# Altium footprint library bga_footp.PcbLib: 19 footprints (part 1 of 4)
Each footprint in its own frame and in the unit in brackets; x right, y up, seen from the top. Pads: shape width x height; smd on the part's side, far side on the other; paste and mask are expansions set on the pad; w line width, h text height; cw(c..) or ccw(c..) is an arc to the next point about the centre after c.
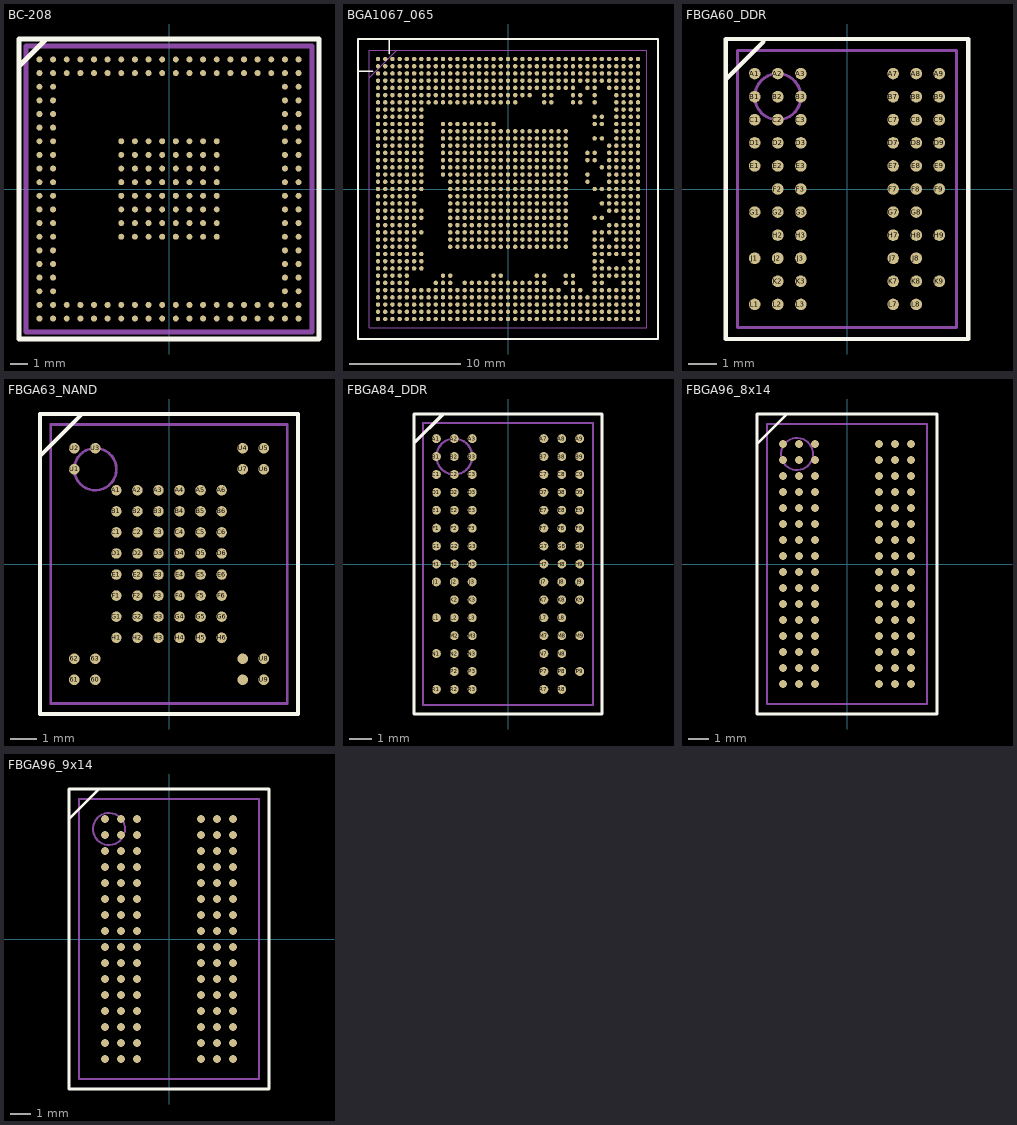
[diagram p0: the footprints below, top view; thin cyan lines are the x and y axes]

## BC-208 [mm]
pads (208):
  round 0.35 smd: A1(-7.6,7.6) A2(-6.8,7.6) A3(-6,7.6) A4(-5.2,7.6) A5(-4.4,7.6) A6(-3.6,7.6) A7(-2.8,7.6) A8(-2,7.6) A9(-1.2,7.6) A10(-0.4,7.6) A11(0.4,7.6) A12(1.2,7.6) A13(2,7.6) A14(2.8,7.6) A15(3.6,7.6) A16(4.4,7.6) A17(5.2,7.6) A18(6,7.6) A19(6.8,7.6) A20(7.6,7.6) B1(-7.6,6.8) B2(-6.8,6.8) B3(-6,6.8) B4(-5.2,6.8) B5(-4.4,6.8) B6(-3.6,6.8) B7(-2.8,6.8) B8(-2,6.8) B9(-1.2,6.8) B10(-0.4,6.8) B11(0.4,6.8) B12(1.2,6.8) B13(2,6.8) B14(2.8,6.8) B15(3.6,6.8) B16(4.4,6.8) B17(5.2,6.8) B18(6,6.8) B19(6.8,6.8) B20(7.6,6.8) C1(-7.6,6) C2(-6.8,6) C19(6.8,6) C20(7.6,6) D1(-7.6,5.2) D2(-6.8,5.2) D19(6.8,5.2) D20(7.6,5.2) E1(-7.6,4.4) E2(-6.8,4.4) E19(6.8,4.4) E20(7.6,4.4) F1(-7.6,3.6) F2(-6.8,3.6) F19(6.8,3.6) F20(7.6,3.6) G1(-7.6,2.8) G2(-6.8,2.8) G7(-2.8,2.8) G8(-2,2.8) G9(-1.2,2.8) G10(-0.4,2.8) G11(0.4,2.8) G12(1.2,2.8) G13(2,2.8) G14(2.8,2.8) G19(6.8,2.8) G20(7.6,2.8) H1(-7.6,2) H2(-6.8,2) H7(-2.8,2) H8(-2,2) H9(-1.2,2) H10(-0.4,2) H11(0.4,2) H12(1.2,2) H13(2,2) H14(2.8,2) H19(6.8,2) H20(7.6,2) J1(-7.6,1.2) J2(-6.8,1.2) J7(-2.8,1.2) J8(-2,1.2) J9(-1.2,1.2) J10(-0.4,1.2) J11(0.4,1.2) J12(1.2,1.2) J13(2,1.2) J14(2.8,1.2) J19(6.8,1.2) J20(7.6,1.2) K1(-7.6,0.4) K2(-6.8,0.4) K7(-2.8,0.4) K8(-2,0.4) K9(-1.2,0.4) K10(-0.4,0.4) K11(0.4,0.4) K12(1.2,0.4) K13(2,0.4) K14(2.8,0.4) K19(6.8,0.4) K20(7.6,0.4) L1(-7.6,-0.4) L2(-6.8,-0.4) L7(-2.8,-0.4) L8(-2,-0.4) L9(-1.2,-0.4) L10(-0.4,-0.4) L11(0.4,-0.4) L12(1.2,-0.4) L13(2,-0.4) L14(2.8,-0.4) L19(6.8,-0.4) L20(7.6,-0.4) M1(-7.6,-1.2) M2(-6.8,-1.2) M7(-2.8,-1.2) M8(-2,-1.2) M9(-1.2,-1.2) M10(-0.4,-1.2) M11(0.4,-1.2) M12(1.2,-1.2) M13(2,-1.2) M14(2.8,-1.2) M19(6.8,-1.2) M20(7.6,-1.2) N1(-7.6,-2) N2(-6.8,-2) N7(-2.8,-2) N8(-2,-2) N9(-1.2,-2) N10(-0.4,-2) N11(0.4,-2) N12(1.2,-2) N13(2,-2) N14(2.8,-2) N19(6.8,-2) N20(7.6,-2) P1(-7.6,-2.8) P2(-6.8,-2.8) P7(-2.8,-2.8) P8(-2,-2.8) P9(-1.2,-2.8) P10(-0.4,-2.8) P11(0.4,-2.8) P12(1.2,-2.8) P13(2,-2.8) P14(2.8,-2.8) P19(6.8,-2.8) P20(7.6,-2.8) R1(-7.6,-3.6) R2(-6.8,-3.6) R19(6.8,-3.6) R20(7.6,-3.6) T1(-7.6,-4.4) T2(-6.8,-4.4) T19(6.8,-4.4) T20(7.6,-4.4) U1(-7.6,-5.2) U2(-6.8,-5.2) U19(6.8,-5.2) U20(7.6,-5.2) V1(-7.6,-6) V2(-6.8,-6) V19(6.8,-6) V20(7.6,-6) W1(-7.6,-6.8) W2(-6.8,-6.8) W3(-6,-6.8) W4(-5.2,-6.8) W5(-4.4,-6.8) W6(-3.6,-6.8) W7(-2.8,-6.8) W8(-2,-6.8) W9(-1.2,-6.8) W10(-0.4,-6.8) W11(0.4,-6.8) W12(1.2,-6.8) W13(2,-6.8) W14(2.8,-6.8) W15(3.6,-6.8) W16(4.4,-6.8) W17(5.2,-6.8) W18(6,-6.8) W19(6.8,-6.8) W20(7.6,-6.8) Y1(-7.6,-7.6) Y2(-6.8,-7.6) Y3(-6,-7.6) Y4(-5.2,-7.6) Y5(-4.4,-7.6) Y6(-3.6,-7.6) Y7(-2.8,-7.6) Y8(-2,-7.6) Y9(-1.2,-7.6) Y10(-0.4,-7.6) Y11(0.4,-7.6) Y12(1.2,-7.6) Y13(2,-7.6) Y14(2.8,-7.6) Y15(3.6,-7.6) Y16(4.4,-7.6) Y17(5.2,-7.6) Y18(6,-7.6) Y19(6.8,-7.6) Y20(7.6,-7.6)
Top Overlay:
  lines w0.3: -8.8,7.2 -7.2,8.8 ; -8.8,-8.8 -8.8,8.8 8.8,8.8 8.8,-8.8 -8.8,-8.8
Mechanical 1:
  lines w0.3: -8.4,-8.4 -8.4,8.4 8.4,8.4 8.4,-8.4 -8.4,-8.4

## BGA1067_065 [mm]
pads (1067):
  round 0.4 smd: A1(-11.7,11.7) A2(-11.05,11.7) A3(-10.4,11.7) A4(-9.75,11.7) A5(-9.1,11.7) A6(-8.45,11.7) A7(-7.8,11.7) A8(-7.15,11.7) A9(-6.5,11.7) A10(-5.85,11.7) A11(-5.2,11.7) A12(-4.55,11.7) A13(-3.9,11.7) A14(-3.25,11.7) A15(-2.6,11.7) A16(-1.95,11.7) A17(-1.3,11.7) A18(-0.65,11.7) A19(0,11.7) A20(0.65,11.7) A21(1.3,11.7) A22(1.95,11.7) A23(2.6,11.7) A24(3.25,11.7) A25(3.9,11.7) A26(4.55,11.7) A27(5.2,11.7) A28(5.85,11.7) A29(6.5,11.7) A30(7.15,11.7) A31(7.8,11.7) A32(8.45,11.7) A33(9.1,11.7) A34(9.75,11.7) A35(10.4,11.7) A36(11.05,11.7) A37(11.7,11.7) AA1(-11.7,-1.3) AA2(-11.05,-1.3) AA3(-10.4,-1.3) AA4(-9.75,-1.3) AA5(-9.1,-1.3) AA6(-8.45,-1.3) AA11(-5.2,-1.3) AA12(-4.55,-1.3) AA13(-3.9,-1.3) AA14(-3.25,-1.3) AA15(-2.6,-1.3) AA16(-1.95,-1.3) AA17(-1.3,-1.3) AA18(-0.65,-1.3) AA19(0,-1.3) AA20(0.65,-1.3) AA21(1.3,-1.3) AA22(1.95,-1.3) AA23(2.6,-1.3) AA24(3.25,-1.3) AA25(3.9,-1.3) AA26(4.55,-1.3) AA27(5.2,-1.3) AA32(8.45,-1.3) AA33(9.1,-1.3) AA34(9.75,-1.3) AA35(10.4,-1.3) AA36(11.05,-1.3) AA37(11.7,-1.3) AB1(-11.7,-1.95) AB2(-11.05,-1.95) AB3(-10.4,-1.95) AB4(-9.75,-1.95) AB5(-9.1,-1.95) AB6(-8.45,-1.95) AB7(-7.8,-1.95) AB11(-5.2,-1.95) AB12(-4.55,-1.95) AB13(-3.9,-1.95) AB14(-3.25,-1.95) AB15(-2.6,-1.95) AB16(-1.95,-1.95) AB17(-1.3,-1.95) AB18(-0.65,-1.95) AB19(0,-1.95) AB20(0.65,-1.95) AB21(1.3,-1.95) AB22(1.95,-1.95) AB23(2.6,-1.95) AB24(3.25,-1.95) AB25(3.9,-1.95) AB26(4.55,-1.95) AB27(5.2,-1.95) AB33(9.1,-1.95) AB34(9.75,-1.95) AB35(10.4,-1.95) AB36(11.05,-1.95) AB37(11.7,-1.95) AC1(-11.7,-2.6) AC2(-11.05,-2.6) AC3(-10.4,-2.6) AC4(-9.75,-2.6) AC5(-9.1,-2.6) AC6(-8.45,-2.6) AC7(-7.8,-2.6) AC11(-5.2,-2.6) AC12(-4.55,-2.6) AC13(-3.9,-2.6) AC14(-3.25,-2.6) AC15(-2.6,-2.6) AC16(-1.95,-2.6) AC17(-1.3,-2.6) AC18(-0.65,-2.6) AC19(0,-2.6) AC20(0.65,-2.6) AC21(1.3,-2.6) AC22(1.95,-2.6) AC23(2.6,-2.6) AC24(3.25,-2.6) AC25(3.9,-2.6) AC26(4.55,-2.6) AC27(5.2,-2.6) AC31(7.8,-2.6) AC32(8.45,-2.6) AC35(10.4,-2.6) AC36(11.05,-2.6) AC37(11.7,-2.6) AD1(-11.7,-3.25) AD2(-11.05,-3.25) AD3(-10.4,-3.25) AD4(-9.75,-3.25) AD5(-9.1,-3.25) AD6(-8.45,-3.25) AD11(-5.2,-3.25) AD12(-4.55,-3.25) AD13(-3.9,-3.25) AD14(-3.25,-3.25) AD15(-2.6,-3.25) AD16(-1.95,-3.25) AD17(-1.3,-3.25) AD18(-0.65,-3.25) AD19(0,-3.25) AD20(0.65,-3.25) AD21(1.3,-3.25) AD22(1.95,-3.25) AD23(2.6,-3.25) AD24(3.25,-3.25) AD25(3.9,-3.25) AD26(4.55,-3.25) AD27(5.2,-3.25) AD33(9.1,-3.25) AD34(9.75,-3.25) AD35(10.4,-3.25) AD36(11.05,-3.25) AD37(11.7,-3.25) AE1(-11.7,-3.9) AE2(-11.05,-3.9) AE3(-10.4,-3.9) AE4(-9.75,-3.9) AE5(-9.1,-3.9) AE6(-8.45,-3.9) AE7(-7.8,-3.9) AE11(-5.2,-3.9) AE12(-4.55,-3.9) AE13(-3.9,-3.9) AE14(-3.25,-3.9) AE15(-2.6,-3.9) AE16(-1.95,-3.9) AE17(-1.3,-3.9) AE18(-0.65,-3.9) AE19(0,-3.9) AE20(0.65,-3.9) AE21(1.3,-3.9) AE22(1.95,-3.9) AE23(2.6,-3.9) AE24(3.25,-3.9) AE25(3.9,-3.9) AE26(4.55,-3.9) AE27(5.2,-3.9) AE31(7.8,-3.9) AE32(8.45,-3.9) AE33(9.1,-3.9) AE34(9.75,-3.9) AE35(10.4,-3.9) AE36(11.05,-3.9) AE37(11.7,-3.9) AF1(-11.7,-4.55) AF2(-11.05,-4.55) AF3(-10.4,-4.55) AF4(-9.75,-4.55) AF5(-9.1,-4.55) AF6(-8.45,-4.55) AF11(-5.2,-4.55) AF12(-4.55,-4.55) AF13(-3.9,-4.55) AF14(-3.25,-4.55) AF15(-2.6,-4.55) AF16(-1.95,-4.55) AF17(-1.3,-4.55) AF18(-0.65,-4.55) AF19(0,-4.55) AF20(0.65,-4.55) AF21(1.3,-4.55) AF22(1.95,-4.55) AF23(2.6,-4.55) AF24(3.25,-4.55) AF25(3.9,-4.55) AF26(4.55,-4.55) AF27(5.2,-4.55) AF31(7.8,-4.55) AF32(8.45,-4.55) AF34(9.75,-4.55) AF35(10.4,-4.55) AF36(11.05,-4.55) AF37(11.7,-4.55) AG1(-11.7,-5.2) AG2(-11.05,-5.2) AG3(-10.4,-5.2) AG4(-9.75,-5.2) AG5(-9.1,-5.2) AG6(-8.45,-5.2) AG11(-5.2,-5.2) AG12(-4.55,-5.2) AG13(-3.9,-5.2) AG14(-3.25,-5.2) AG15(-2.6,-5.2) AG16(-1.95,-5.2) AG17(-1.3,-5.2) AG18(-0.65,-5.2) AG19(0,-5.2) AG20(0.65,-5.2) AG21(1.3,-5.2) AG22(1.95,-5.2) AG23(2.6,-5.2) AG24(3.25,-5.2) AG25(3.9,-5.2) AG26(4.55,-5.2) AG27(5.2,-5.2) AG31(7.8,-5.2) AG32(8.45,-5.2) AG33(9.1,-5.2) AG34(9.75,-5.2) AG35(10.4,-5.2) AG36(11.05,-5.2) AG37(11.7,-5.2) AH1(-11.7,-5.85) AH2(-11.05,-5.85) AH3(-10.4,-5.85) AH4(-9.75,-5.85) AH5(-9.1,-5.85) AH6(-8.45,-5.85) AH7(-7.8,-5.85) AH31(7.8,-5.85) AH32(8.45,-5.85) AH33(9.1,-5.85) AH34(9.75,-5.85) AH35(10.4,-5.85) AH36(11.05,-5.85) AH37(11.7,-5.85) AJ1(-11.7,-6.5) AJ2(-11.05,-6.5) AJ3(-10.4,-6.5) AJ4(-9.75,-6.5) AJ5(-9.1,-6.5) AJ6(-8.45,-6.5) AJ7(-7.8,-6.5) AJ31(7.8,-6.5) AJ32(8.45,-6.5) AJ36(11.05,-6.5) AJ37(11.7,-6.5) AK1(-11.7,-7.15) AK2(-11.05,-7.15) AK3(-10.4,-7.15) AK4(-9.75,-7.15) AK5(-9.1,-7.15) AK6(-8.45,-7.15) AK7(-7.8,-7.15) AK31(7.8,-7.15) AK32(8.45,-7.15) AK33(9.1,-7.15) AK34(9.75,-7.15) AK35(10.4,-7.15) AK36(11.05,-7.15) AK37(11.7,-7.15) AL1(-11.7,-7.8) AL2(-11.05,-7.8) AL3(-10.4,-7.8) AL4(-9.75,-7.8) AL5(-9.1,-7.8) AL10(-5.85,-7.8) AL11(-5.2,-7.8) AL17(-1.3,-7.8) AL18(-0.65,-7.8) AL23(2.6,-7.8) AL24(3.25,-7.8) AL27(5.2,-7.8) AL28(5.85,-7.8) AL31(7.8,-7.8) AL32(8.45,-7.8) AL33(9.1,-7.8) AL34(9.75,-7.8) AL35(10.4,-7.8) AL36(11.05,-7.8) AL37(11.7,-7.8) AM1(-11.7,-8.45) AM2(-11.05,-8.45) AM3(-10.4,-8.45) AM4(-9.75,-8.45) AM5(-9.1,-8.45) AM9(-6.5,-8.45) AM10(-5.85,-8.45) AM11(-5.2,-8.45) AM13(-3.9,-8.45) AM14(-3.25,-8.45) AM15(-2.6,-8.45) AM16(-1.95,-8.45) AM17(-1.3,-8.45) AM18(-0.65,-8.45) AM19(0,-8.45) AM20(0.65,-8.45) AM21(1.3,-8.45) AM22(1.95,-8.45) AM23(2.6,-8.45) AM24(3.25,-8.45) AM27(5.2,-8.45) AM28(5.85,-8.45) AM31(7.8,-8.45) AM32(8.45,-8.45) AM35(10.4,-8.45) AM36(11.05,-8.45) AM37(11.7,-8.45) AN1(-11.7,-9.1) AN2(-11.05,-9.1) AN3(-10.4,-9.1) AN4(-9.75,-9.1) AN5(-9.1,-9.1) AN6(-8.45,-9.1) AN7(-7.8,-9.1) AN8(-7.15,-9.1) AN9(-6.5,-9.1) AN10(-5.85,-9.1) AN11(-5.2,-9.1) AN12(-4.55,-9.1) AN13(-3.9,-9.1) AN14(-3.25,-9.1) AN15(-2.6,-9.1) AN16(-1.95,-9.1) AN17(-1.3,-9.1) AN18(-0.65,-9.1) AN19(0,-9.1) AN20(0.65,-9.1) AN21(1.3,-9.1) AN22(1.95,-9.1) AN23(2.6,-9.1) AN24(3.25,-9.1) AN25(3.9,-9.1) AN26(4.55,-9.1) AN28(5.85,-9.1) AN29(6.5,-9.1) AN31(7.8,-9.1) AN32(8.45,-9.1) AN33(9.1,-9.1) AN34(9.75,-9.1) AN35(10.4,-9.1) AN36(11.05,-9.1) AN37(11.7,-9.1) AP1(-11.7,-9.75) AP2(-11.05,-9.75) AP3(-10.4,-9.75) AP4(-9.75,-9.75) AP5(-9.1,-9.75) AP6(-8.45,-9.75) AP7(-7.8,-9.75) AP8(-7.15,-9.75) AP9(-6.5,-9.75) AP10(-5.85,-9.75) AP11(-5.2,-9.75) AP12(-4.55,-9.75) AP13(-3.9,-9.75) AP14(-3.25,-9.75) AP15(-2.6,-9.75) AP16(-1.95,-9.75) AP17(-1.3,-9.75) AP18(-0.65,-9.75) AP19(0,-9.75) AP20(0.65,-9.75) AP21(1.3,-9.75) AP22(1.95,-9.75) AP23(2.6,-9.75) AP24(3.25,-9.75) AP25(3.9,-9.75) AP26(4.55,-9.75) AP27(5.2,-9.75) AP28(5.85,-9.75) AP29(6.5,-9.75) AP30(7.15,-9.75) AP31(7.8,-9.75) AP32(8.45,-9.75) AP33(9.1,-9.75) AP34(9.75,-9.75) AP35(10.4,-9.75) AP36(11.05,-9.75) AP37(11.7,-9.75) AR1(-11.7,-10.4) AR2(-11.05,-10.4) AR3(-10.4,-10.4) AR4(-9.75,-10.4) AR5(-9.1,-10.4) AR6(-8.45,-10.4) AR7(-7.8,-10.4) AR8(-7.15,-10.4) AR9(-6.5,-10.4) AR10(-5.85,-10.4) AR11(-5.2,-10.4) AR12(-4.55,-10.4) AR13(-3.9,-10.4) AR14(-3.25,-10.4) AR15(-2.6,-10.4) AR16(-1.95,-10.4) AR17(-1.3,-10.4) AR18(-0.65,-10.4) AR19(0,-10.4) AR20(0.65,-10.4) AR21(1.3,-10.4) AR22(1.95,-10.4) AR23(2.6,-10.4) AR24(3.25,-10.4) AR25(3.9,-10.4) AR26(4.55,-10.4) AR27(5.2,-10.4) AR28(5.85,-10.4) AR29(6.5,-10.4) AR30(7.15,-10.4) AR31(7.8,-10.4) AR32(8.45,-10.4) AR33(9.1,-10.4) AR34(9.75,-10.4) AR35(10.4,-10.4) AR36(11.05,-10.4) AR37(11.7,-10.4) AT1(-11.7,-11.05) AT2(-11.05,-11.05) AT3(-10.4,-11.05) AT4(-9.75,-11.05) AT5(-9.1,-11.05) AT6(-8.45,-11.05) AT7(-7.8,-11.05) AT8(-7.15,-11.05) AT9(-6.5,-11.05) AT10(-5.85,-11.05) AT11(-5.2,-11.05) AT12(-4.55,-11.05) AT13(-3.9,-11.05) AT14(-3.25,-11.05) AT15(-2.6,-11.05) AT16(-1.95,-11.05) AT17(-1.3,-11.05) AT18(-0.65,-11.05) AT19(0,-11.05) AT20(0.65,-11.05) AT21(1.3,-11.05) AT22(1.95,-11.05) AT23(2.6,-11.05) AT24(3.25,-11.05) AT25(3.9,-11.05) AT26(4.55,-11.05) AT27(5.2,-11.05) AT28(5.85,-11.05) AT29(6.5,-11.05) AT30(7.15,-11.05) AT31(7.8,-11.05) AT32(8.45,-11.05) AT33(9.1,-11.05) AT34(9.75,-11.05) AT35(10.4,-11.05) AT36(11.05,-11.05) AT37(11.7,-11.05) AU1(-11.7,-11.7) AU2(-11.05,-11.7) AU3(-10.4,-11.7) AU4(-9.75,-11.7) AU5(-9.1,-11.7) AU6(-8.45,-11.7) AU7(-7.8,-11.7) AU8(-7.15,-11.7) AU9(-6.5,-11.7) AU10(-5.85,-11.7) AU11(-5.2,-11.7) AU12(-4.55,-11.7) AU13(-3.9,-11.7) AU14(-3.25,-11.7) AU15(-2.6,-11.7) AU16(-1.95,-11.7) AU17(-1.3,-11.7) AU18(-0.65,-11.7) AU19(0,-11.7) AU20(0.65,-11.7) AU21(1.3,-11.7) AU22(1.95,-11.7) AU23(2.6,-11.7) AU24(3.25,-11.7) AU25(3.9,-11.7) AU26(4.55,-11.7) AU27(5.2,-11.7) AU28(5.85,-11.7) AU29(6.5,-11.7) AU30(7.15,-11.7) AU31(7.8,-11.7) AU32(8.45,-11.7) AU33(9.1,-11.7) AU34(9.75,-11.7) AU35(10.4,-11.7) AU36(11.05,-11.7) AU37(11.7,-11.7) B1(-11.7,11.05) B2(-11.05,11.05) B3(-10.4,11.05) B4(-9.75,11.05) B5(-9.1,11.05) B6(-8.45,11.05) B7(-7.8,11.05) B8(-7.15,11.05) B9(-6.5,11.05) B10(-5.85,11.05) B11(-5.2,11.05) B12(-4.55,11.05) B13(-3.9,11.05) B14(-3.25,11.05) B15(-2.6,11.05) B16(-1.95,11.05) B17(-1.3,11.05) B18(-0.65,11.05) B19(0,11.05) B20(0.65,11.05) B21(1.3,11.05) B22(1.95,11.05) B23(2.6,11.05) B24(3.25,11.05) B25(3.9,11.05) B26(4.55,11.05) B27(5.2,11.05) B28(5.85,11.05) B29(6.5,11.05) B30(7.15,11.05) B31(7.8,11.05) B32(8.45,11.05) B33(9.1,11.05) B34(9.75,11.05) B35(10.4,11.05) B36(11.05,11.05) B37(11.7,11.05) C1(-11.7,10.4) C2(-11.05,10.4) C3(-10.4,10.4) C4(-9.75,10.4) C5(-9.1,10.4) C6(-8.45,10.4) C7(-7.8,10.4) C8(-7.15,10.4) C9(-6.5,10.4) C10(-5.85,10.4) C11(-5.2,10.4) C12(-4.55,10.4) C13(-3.9,10.4) C14(-3.25,10.4) C15(-2.6,10.4) C16(-1.95,10.4) C17(-1.3,10.4) C18(-0.65,10.4) C19(0,10.4) C20(0.65,10.4) C21(1.3,10.4) C22(1.95,10.4) C23(2.6,10.4) C24(3.25,10.4) C25(3.9,10.4) C26(4.55,10.4) C27(5.2,10.4) C28(5.85,10.4) C29(6.5,10.4) C30(7.15,10.4) C31(7.8,10.4) C32(8.45,10.4) C33(9.1,10.4) C34(9.75,10.4) C35(10.4,10.4) C36(11.05,10.4) C37(11.7,10.4) D1(-11.7,9.75) D2(-11.05,9.75) D3(-10.4,9.75) D4(-9.75,9.75) D5(-9.1,9.75) D6(-8.45,9.75) D7(-7.8,9.75) D8(-7.15,9.75) D9(-6.5,9.75) D10(-5.85,9.75) D11(-5.2,9.75) D12(-4.55,9.75) D13(-3.9,9.75) D14(-3.25,9.75) D15(-2.6,9.75) D16(-1.95,9.75) D17(-1.3,9.75) D18(-0.65,9.75) D19(0,9.75) D20(0.65,9.75) D21(1.3,9.75) D22(1.95,9.75) D23(2.6,9.75) D24(3.25,9.75) D25(3.9,9.75) D26(4.55,9.75) D27(5.2,9.75) D28(5.85,9.75) D29(6.5,9.75) D30(7.15,9.75) D31(7.8,9.75) D32(8.45,9.75) D33(9.1,9.75) D34(9.75,9.75) D35(10.4,9.75) D36(11.05,9.75) D37(11.7,9.75) E1(-11.7,9.1) E2(-11.05,9.1) E3(-10.4,9.1) E4(-9.75,9.1) E5(-9.1,9.1) E6(-8.45,9.1) E7(-7.8,9.1) E8(-7.15,9.1) E9(-6.5,9.1) E10(-5.85,9.1) E11(-5.2,9.1) E12(-4.55,9.1) E13(-3.9,9.1) E14(-3.25,9.1) E15(-2.6,9.1) E16(-1.95,9.1) E17(-1.3,9.1) E18(-0.65,9.1) E19(0,9.1) E20(0.65,9.1) E21(1.3,9.1) E22(1.95,9.1) E23(2.6,9.1) E24(3.25,9.1) E25(3.9,9.1) E26(4.55,9.1) E27(5.2,9.1) E28(5.85,9.1) E30(7.15,9.1) E31(7.8,9.1) E33(9.1,9.1) E34(9.75,9.1) E35(10.4,9.1) E36(11.05,9.1) E37(11.7,9.1) F1(-11.7,8.45) F2(-11.05,8.45) F3(-10.4,8.45) F4(-9.75,8.45) F5(-9.1,8.45) F6(-8.45,8.45) F7(-7.8,8.45) F8(-7.15,8.45) F9(-6.5,8.45) F10(-5.85,8.45) F11(-5.2,8.45) F12(-4.55,8.45) F13(-3.9,8.45) F14(-3.25,8.45) F15(-2.6,8.45) F16(-1.95,8.45) F17(-1.3,8.45) F18(-0.65,8.45) F19(0,8.45) F20(0.65,8.45) F21(1.3,8.45) F22(1.95,8.45) F24(3.25,8.45) F25(3.9,8.45) F28(5.85,8.45) F29(6.5,8.45) F31(7.8,8.45) F34(9.75,8.45) F35(10.4,8.45) F36(11.05,8.45) F37(11.7,8.45) G1(-11.7,7.8) G2(-11.05,7.8) G3(-10.4,7.8) G4(-9.75,7.8) G5(-9.1,7.8) G6(-8.45,7.8) G7(-7.8,7.8) G8(-7.15,7.8) G9(-6.5,7.8) G10(-5.85,7.8) G11(-5.2,7.8) G12(-4.55,7.8) G13(-3.9,7.8) G14(-3.25,7.8) G15(-2.6,7.8) G16(-1.95,7.8) G17(-1.3,7.8) G18(-0.65,7.8) G19(0,7.8) G20(0.65,7.8) G24(3.25,7.8) G25(3.9,7.8) G28(5.85,7.8) G29(6.5,7.8) G31(7.8,7.8) G34(9.75,7.8) G35(10.4,7.8) G36(11.05,7.8) G37(11.7,7.8) H1(-11.7,7.15) H2(-11.05,7.15) H3(-10.4,7.15) H4(-9.75,7.15) H5(-9.1,7.15) H6(-8.45,7.15) H7(-7.8,7.15) H34(9.75,7.15) H35(10.4,7.15) H36(11.05,7.15) H37(11.7,7.15) J1(-11.7,6.5) J2(-11.05,6.5) J3(-10.4,6.5) J4(-9.75,6.5) J5(-9.1,6.5) J6(-8.45,6.5) J7(-7.8,6.5) J31(7.8,6.5) J32(8.45,6.5) J34(9.75,6.5) J35(10.4,6.5) J36(11.05,6.5) J37(11.7,6.5) K1(-11.7,5.85) K2(-11.05,5.85) K3(-10.4,5.85) K4(-9.75,5.85) K5(-9.1,5.85) K6(-8.45,5.85) K7(-7.8,5.85) K10(-5.85,5.85) K11(-5.2,5.85) K12(-4.55,5.85) K13(-3.9,5.85) K14(-3.25,5.85) K15(-2.6,5.85) K16(-1.95,5.85) K17(-1.3,5.85) K31(7.8,5.85) K32(8.45,5.85) K34(9.75,5.85) K35(10.4,5.85) K36(11.05,5.85) K37(11.7,5.85) L1(-11.7,5.2) L2(-11.05,5.2) L3(-10.4,5.2) L4(-9.75,5.2) L5(-9.1,5.2) L6(-8.45,5.2) L7(-7.8,5.2) L10(-5.85,5.2) L11(-5.2,5.2) L12(-4.55,5.2) L13(-3.9,5.2) L14(-3.25,5.2) L15(-2.6,5.2) L16(-1.95,5.2) L17(-1.3,5.2) L18(-0.65,5.2) L19(0,5.2) L20(0.65,5.2) L21(1.3,5.2) L22(1.95,5.2) L23(2.6,5.2) L24(3.25,5.2) L25(3.9,5.2) L26(4.55,5.2) L27(5.2,5.2) L34(9.75,5.2) L35(10.4,5.2) L36(11.05,5.2) L37(11.7,5.2) M1(-11.7,4.55) M2(-11.05,4.55) M3(-10.4,4.55) M4(-9.75,4.55) M5(-9.1,4.55) M6(-8.45,4.55) M7(-7.8,4.55) M10(-5.85,4.55) M11(-5.2,4.55) M12(-4.55,4.55) M13(-3.9,4.55) M14(-3.25,4.55) M15(-2.6,4.55) M16(-1.95,4.55) M17(-1.3,4.55) M18(-0.65,4.55) M19(0,4.55) M20(0.65,4.55) M21(1.3,4.55) M22(1.95,4.55) M23(2.6,4.55) M24(3.25,4.55) M25(3.9,4.55) M26(4.55,4.55) M27(5.2,4.55) M31(7.8,4.55) M32(8.45,4.55) M34(9.75,4.55) M35(10.4,4.55) M36(11.05,4.55) M37(11.7,4.55) N1(-11.7,3.9) N2(-11.05,3.9) N3(-10.4,3.9) N4(-9.75,3.9) N5(-9.1,3.9) N6(-8.45,3.9) N7(-7.8,3.9) N10(-5.85,3.9) N11(-5.2,3.9) N12(-4.55,3.9) N13(-3.9,3.9) N14(-3.25,3.9) N15(-2.6,3.9) N16(-1.95,3.9) N17(-1.3,3.9) N18(-0.65,3.9) N19(0,3.9) N20(0.65,3.9) N21(1.3,3.9) N22(1.95,3.9) N23(2.6,3.9) N24(3.25,3.9) N25(3.9,3.9) N26(4.55,3.9) N27(5.2,3.9) N33(9.1,3.9) N34(9.75,3.9) N35(10.4,3.9) N36(11.05,3.9) N37(11.7,3.9) P1(-11.7,3.25) P2(-11.05,3.25) P3(-10.4,3.25) P4(-9.75,3.25) P5(-9.1,3.25) P6(-8.45,3.25) P7(-7.8,3.25) P10(-5.85,3.25) P11(-5.2,3.25) P12(-4.55,3.25) P13(-3.9,3.25) P14(-3.25,3.25) P15(-2.6,3.25) P16(-1.95,3.25) P17(-1.3,3.25) P18(-0.65,3.25) P19(0,3.25) P20(0.65,3.25) P21(1.3,3.25) P22(1.95,3.25) P23(2.6,3.25) P24(3.25,3.25) P25(3.9,3.25) P26(4.55,3.25) P27(5.2,3.25) P30(7.15,3.25) P31(7.8,3.25) P33(9.1,3.25) P34(9.75,3.25) P35(10.4,3.25) P36(11.05,3.25) P37(11.7,3.25) R1(-11.7,2.6) R2(-11.05,2.6) R3(-10.4,2.6) R4(-9.75,2.6) R5(-9.1,2.6) R6(-8.45,2.6) R7(-7.8,2.6) R10(-5.85,2.6) R11(-5.2,2.6) R12(-4.55,2.6) R13(-3.9,2.6) R14(-3.25,2.6) R15(-2.6,2.6) R16(-1.95,2.6) R17(-1.3,2.6) R18(-0.65,2.6) R19(0,2.6) R20(0.65,2.6) R21(1.3,2.6) R22(1.95,2.6) R23(2.6,2.6) R24(3.25,2.6) R25(3.9,2.6) R26(4.55,2.6) R27(5.2,2.6) R30(7.15,2.6) R31(7.8,2.6) R33(9.1,2.6) R34(9.75,2.6) R35(10.4,2.6) R36(11.05,2.6) R37(11.7,2.6) T1(-11.7,1.95) T2(-11.05,1.95) T3(-10.4,1.95) T4(-9.75,1.95) T5(-9.1,1.95) T6(-8.45,1.95) T7(-7.8,1.95) T10(-5.85,1.95) T11(-5.2,1.95) T12(-4.55,1.95) T13(-3.9,1.95) T14(-3.25,1.95) T15(-2.6,1.95) T16(-1.95,1.95) T17(-1.3,1.95) T18(-0.65,1.95) T19(0,1.95) T20(0.65,1.95) T21(1.3,1.95) T22(1.95,1.95) T23(2.6,1.95) T24(3.25,1.95) T25(3.9,1.95) T26(4.55,1.95) T27(5.2,1.95) T32(8.45,1.95) T33(9.1,1.95) T34(9.75,1.95) T35(10.4,1.95) T36(11.05,1.95) T37(11.7,1.95) U1(-11.7,1.3) U2(-11.05,1.3) U3(-10.4,1.3) U4(-9.75,1.3) U5(-9.1,1.3) U6(-8.45,1.3) U7(-7.8,1.3) U10(-5.85,1.3) U11(-5.2,1.3) U12(-4.55,1.3) U13(-3.9,1.3) U14(-3.25,1.3) U15(-2.6,1.3) U16(-1.95,1.3) U17(-1.3,1.3) U18(-0.65,1.3) U19(0,1.3) U20(0.65,1.3) U21(1.3,1.3) U22(1.95,1.3) U23(2.6,1.3) U24(3.25,1.3) U25(3.9,1.3) U26(4.55,1.3) U27(5.2,1.3) U30(7.15,1.3) U33(9.1,1.3) U34(9.75,1.3) U35(10.4,1.3) U36(11.05,1.3) U37(11.7,1.3) V1(-11.7,0.65) V2(-11.05,0.65) V3(-10.4,0.65) V4(-9.75,0.65) V5(-9.1,0.65) V6(-8.45,0.65) V7(-7.8,0.65) V11(-5.2,0.65) V12(-4.55,0.65) V13(-3.9,0.65) V14(-3.25,0.65) V15(-2.6,0.65) V16(-1.95,0.65) V17(-1.3,0.65) V18(-0.65,0.65) V19(0,0.65) V20(0.65,0.65) V21(1.3,0.65) V22(1.95,0.65) V23(2.6,0.65) V24(3.25,0.65) V25(3.9,0.65) V26(4.55,0.65) V27(5.2,0.65) V30(7.15,0.65) V33(9.1,0.65) V34(9.75,0.65) V35(10.4,0.65) V36(11.05,0.65) V37(11.7,0.65) W1(-11.7,0) W2(-11.05,0) W3(-10.4,0) W4(-9.75,0) W5(-9.1,0) W6(-8.45,0) W7(-7.8,0) W11(-5.2,0) W12(-4.55,0) W13(-3.9,0) W14(-3.25,0) W15(-2.6,0) W16(-1.95,0) W17(-1.3,0) W18(-0.65,0) W19(0,0) W20(0.65,0) W21(1.3,0) W22(1.95,0) W23(2.6,0) W24(3.25,0) W25(3.9,0) W26(4.55,0) W27(5.2,0) W31(7.8,0) W32(8.45,0) W33(9.1,0) W34(9.75,0) W35(10.4,0) W36(11.05,0) W37(11.7,0) Y1(-11.7,-0.65) Y2(-11.05,-0.65) Y3(-10.4,-0.65) Y4(-9.75,-0.65) Y5(-9.1,-0.65) Y6(-8.45,-0.65) Y11(-5.2,-0.65) Y12(-4.55,-0.65) Y13(-3.9,-0.65) Y14(-3.25,-0.65) Y15(-2.6,-0.65) Y16(-1.95,-0.65) Y17(-1.3,-0.65) Y18(-0.65,-0.65) Y19(0,-0.65) Y20(0.65,-0.65) Y21(1.3,-0.65) Y22(1.95,-0.65) Y23(2.6,-0.65) Y24(3.25,-0.65) Y25(3.9,-0.65) Y26(4.55,-0.65) Y27(5.2,-0.65) Y33(9.1,-0.65) Y34(9.75,-0.65) Y35(10.4,-0.65) Y36(11.05,-0.65) Y37(11.7,-0.65)
Top Overlay:
  lines w0.15: -13.5,10.6 -12.2,10.6 ; -10.7,12.2 -10.7,13.5 ; -13.5,-13.5 13.5,-13.5 13.5,13.5 -13.5,13.5 -13.5,-13.5
Mechanical 1:
  lines w0.1: -12.5,10 -10,12.5 ; -12.5,-12.5 12.5,-12.5 12.5,12.5 -12.5,12.5 -12.5,-12.5
3D body: height 1, standoff 0.3, extent -12.5,-12.5 12.5,12.5
3D body: height 0.44, standoff -0.04, extent 11.46,11.46 11.94,11.94
3D body: height 0.44, standoff -0.04, extent 10.81,11.46 11.29,11.94
3D body: height 0.44, standoff -0.04, extent 10.16,11.46 10.64,11.94
3D body: height 0.44, standoff -0.04, extent 9.51,11.46 9.99,11.94
3D body: height 0.44, standoff -0.04, extent 6.91,11.46 7.39,11.94
3D body: height 0.44, standoff -0.04, extent 7.56,11.46 8.04,11.94
3D body: height 0.44, standoff -0.04, extent 8.21,11.46 8.69,11.94
3D body: height 0.44, standoff -0.04, extent 8.86,11.46 9.34,11.94
3D body: height 0.44, standoff -0.04, extent 3.66,11.46 4.14,11.94
3D body: height 0.44, standoff -0.04, extent 3.01,11.46 3.49,11.94
3D body: height 0.44, standoff -0.04, extent 2.36,11.46 2.84,11.94
3D body: height 0.44, standoff -0.04, extent 1.71,11.46 2.19,11.94
3D body: height 0.44, standoff -0.04, extent 4.31,11.46 4.79,11.94
3D body: height 0.44, standoff -0.04, extent 4.96,11.46 5.44,11.94
3D body: height 0.44, standoff -0.04, extent 5.61,11.46 6.09,11.94
3D body: height 0.44, standoff -0.04, extent 6.26,11.46 6.74,11.94
3D body: height 0.44, standoff -0.04, extent -1.54,11.46 -1.06,11.94
3D body: height 0.44, standoff -0.04, extent -2.19,11.46 -1.71,11.94
3D body: height 0.44, standoff -0.04, extent -2.84,11.46 -2.36,11.94
3D body: height 0.44, standoff -0.04, extent -3.49,11.46 -3.01,11.94
3D body: height 0.44, standoff -0.04, extent -0.89,11.46 -0.41,11.94
3D body: height 0.44, standoff -0.04, extent -0.24,11.46 0.24,11.94
3D body: height 0.44, standoff -0.04, extent 0.41,11.46 0.89,11.94
3D body: height 0.44, standoff -0.04, extent 1.06,11.46 1.54,11.94
3D body: height 0.44, standoff -0.04, extent -6.74,11.46 -6.26,11.94
3D body: height 0.44, standoff -0.04, extent -7.39,11.46 -6.91,11.94
3D body: height 0.44, standoff -0.04, extent -8.04,11.46 -7.56,11.94
3D body: height 0.44, standoff -0.04, extent -8.69,11.46 -8.21,11.94
3D body: height 0.44, standoff -0.04, extent -6.09,11.46 -5.61,11.94
3D body: height 0.44, standoff -0.04, extent -5.44,11.46 -4.96,11.94
3D body: height 0.44, standoff -0.04, extent -4.79,11.46 -4.31,11.94
3D body: height 0.44, standoff -0.04, extent -4.14,11.46 -3.66,11.94
3D body: height 0.44, standoff -0.04, extent -11.29,11.46 -10.81,11.94
3D body: height 0.44, standoff -0.04, extent -10.64,11.46 -10.16,11.94
3D body: height 0.44, standoff -0.04, extent -9.99,11.46 -9.51,11.94
3D body: height 0.44, standoff -0.04, extent -9.34,11.46 -8.86,11.94
3D body: height 0.44, standoff -0.04, extent 11.46,-11.94 11.94,-11.46
3D body: height 0.44, standoff -0.04, extent 11.46,-11.29 11.94,-10.81
3D body: height 0.44, standoff -0.04, extent 11.46,-10.64 11.94,-10.16
3D body: height 0.44, standoff -0.04, extent 11.46,-9.99 11.94,-9.51
3D body: height 0.44, standoff -0.04, extent 11.46,-7.39 11.94,-6.91
3D body: height 0.44, standoff -0.04, extent 11.46,-8.04 11.94,-7.56
3D body: height 0.44, standoff -0.04, extent 11.46,-8.69 11.94,-8.21
3D body: height 0.44, standoff -0.04, extent 11.46,-9.34 11.94,-8.86
3D body: height 0.44, standoff -0.04, extent 11.46,-4.14 11.94,-3.66
3D body: height 0.44, standoff -0.04, extent 11.46,-3.49 11.94,-3.01
3D body: height 0.44, standoff -0.04, extent 11.46,-2.84 11.94,-2.36
3D body: height 0.44, standoff -0.04, extent 11.46,-2.19 11.94,-1.71
3D body: height 0.44, standoff -0.04, extent 11.46,-4.79 11.94,-4.31
3D body: height 0.44, standoff -0.04, extent 11.46,-5.44 11.94,-4.96
3D body: height 0.44, standoff -0.04, extent 11.46,-6.09 11.94,-5.61
3D body: height 0.44, standoff -0.04, extent 11.46,-6.74 11.94,-6.26
3D body: height 0.44, standoff -0.04, extent 11.46,1.06 11.94,1.54
3D body: height 0.44, standoff -0.04, extent 11.46,1.71 11.94,2.19
3D body: height 0.44, standoff -0.04, extent 11.46,2.36 11.94,2.84
3D body: height 0.44, standoff -0.04, extent 11.46,3.01 11.94,3.49
3D body: height 0.44, standoff -0.04, extent 11.46,0.41 11.94,0.89
3D body: height 0.44, standoff -0.04, extent 11.46,-0.24 11.94,0.24
3D body: height 0.44, standoff -0.04, extent 11.46,-0.89 11.94,-0.41
3D body: height 0.44, standoff -0.04, extent 11.46,-1.54 11.94,-1.06
3D body: height 0.44, standoff -0.04, extent 11.46,6.26 11.94,6.74
3D body: height 0.44, standoff -0.04, extent 11.46,6.91 11.94,7.39
3D body: height 0.44, standoff -0.04, extent 11.46,7.56 11.94,8.04
3D body: height 0.44, standoff -0.04, extent 11.46,8.21 11.94,8.69
3D body: height 0.44, standoff -0.04, extent 11.46,5.61 11.94,6.09
3D body: height 0.44, standoff -0.04, extent 11.46,4.96 11.94,5.44
3D body: height 0.44, standoff -0.04, extent 11.46,4.31 11.94,4.79
3D body: height 0.44, standoff -0.04, extent 11.46,3.66 11.94,4.14
3D body: height 0.44, standoff -0.04, extent 11.46,10.81 11.94,11.29
3D body: height 0.44, standoff -0.04, extent 11.46,10.16 11.94,10.64
3D body: height 0.44, standoff -0.04, extent 11.46,9.51 11.94,9.99
3D body: height 0.44, standoff -0.04, extent 11.46,8.86 11.94,9.34
3D body: height 0.44, standoff -0.04, extent -11.94,-11.94 -11.46,-11.46
3D body: height 0.44, standoff -0.04, extent -11.29,-11.94 -10.81,-11.46
3D body: height 0.44, standoff -0.04, extent -10.64,-11.94 -10.16,-11.46
3D body: height 0.44, standoff -0.04, extent -9.99,-11.94 -9.51,-11.46
3D body: height 0.44, standoff -0.04, extent -7.39,-11.94 -6.91,-11.46
3D body: height 0.44, standoff -0.04, extent -8.04,-11.94 -7.56,-11.46
3D body: height 0.44, standoff -0.04, extent -8.69,-11.94 -8.21,-11.46
3D body: height 0.44, standoff -0.04, extent -9.34,-11.94 -8.86,-11.46
3D body: height 0.44, standoff -0.04, extent -4.14,-11.94 -3.66,-11.46
3D body: height 0.44, standoff -0.04, extent -3.49,-11.94 -3.01,-11.46
3D body: height 0.44, standoff -0.04, extent -2.84,-11.94 -2.36,-11.46
3D body: height 0.44, standoff -0.04, extent -2.19,-11.94 -1.71,-11.46
3D body: height 0.44, standoff -0.04, extent -4.79,-11.94 -4.31,-11.46
3D body: height 0.44, standoff -0.04, extent -5.44,-11.94 -4.96,-11.46
3D body: height 0.44, standoff -0.04, extent -6.09,-11.94 -5.61,-11.46
3D body: height 0.44, standoff -0.04, extent -6.74,-11.94 -6.26,-11.46
3D body: height 0.44, standoff -0.04, extent 1.06,-11.94 1.54,-11.46
3D body: height 0.44, standoff -0.04, extent 1.71,-11.94 2.19,-11.46
3D body: height 0.44, standoff -0.04, extent 2.36,-11.94 2.84,-11.46
3D body: height 0.44, standoff -0.04, extent 3.01,-11.94 3.49,-11.46
3D body: height 0.44, standoff -0.04, extent 0.41,-11.94 0.89,-11.46
3D body: height 0.44, standoff -0.04, extent -0.24,-11.94 0.24,-11.46
3D body: height 0.44, standoff -0.04, extent -0.89,-11.94 -0.41,-11.46
3D body: height 0.44, standoff -0.04, extent -1.54,-11.94 -1.06,-11.46
3D body: height 0.44, standoff -0.04, extent 6.26,-11.94 6.74,-11.46
3D body: height 0.44, standoff -0.04, extent 6.91,-11.94 7.39,-11.46
3D body: height 0.44, standoff -0.04, extent 7.56,-11.94 8.04,-11.46
3D body: height 0.44, standoff -0.04, extent 8.21,-11.94 8.69,-11.46
3D body: height 0.44, standoff -0.04, extent 5.61,-11.94 6.09,-11.46
3D body: height 0.44, standoff -0.04, extent 4.96,-11.94 5.44,-11.46
3D body: height 0.44, standoff -0.04, extent 4.31,-11.94 4.79,-11.46
3D body: height 0.44, standoff -0.04, extent 3.66,-11.94 4.14,-11.46
3D body: height 0.44, standoff -0.04, extent 10.81,-11.94 11.29,-11.46
3D body: height 0.44, standoff -0.04, extent 10.16,-11.94 10.64,-11.46
3D body: height 0.44, standoff -0.04, extent 9.51,-11.94 9.99,-11.46
3D body: height 0.44, standoff -0.04, extent 8.86,-11.94 9.34,-11.46
3D body: height 0.44, standoff -0.04, extent -11.94,-9.34 -11.46,-8.86
3D body: height 0.44, standoff -0.04, extent -11.94,-9.99 -11.46,-9.51
3D body: height 0.44, standoff -0.04, extent -11.94,-10.64 -11.46,-10.16
3D body: height 0.44, standoff -0.04, extent -11.94,-11.29 -11.46,-10.81
3D body: height 0.44, standoff -0.04, extent -11.94,-4.14 -11.46,-3.66
3D body: height 0.44, standoff -0.04, extent -11.94,-4.79 -11.46,-4.31
3D body: height 0.44, standoff -0.04, extent -11.94,-5.44 -11.46,-4.96
3D body: height 0.44, standoff -0.04, extent -11.94,-6.09 -11.46,-5.61
3D body: height 0.44, standoff -0.04, extent -11.94,-8.69 -11.46,-8.21
3D body: height 0.44, standoff -0.04, extent -11.94,-8.04 -11.46,-7.56
3D body: height 0.44, standoff -0.04, extent -11.94,-7.39 -11.46,-6.91
3D body: height 0.44, standoff -0.04, extent -11.94,-6.74 -11.46,-6.26
3D body: height 0.44, standoff -0.04, extent -11.94,1.06 -11.46,1.54
3D body: height 0.44, standoff -0.04, extent -11.94,0.41 -11.46,0.89
3D body: height 0.44, standoff -0.04, extent -11.94,-0.24 -11.46,0.24
3D body: height 0.44, standoff -0.04, extent -11.94,-0.89 -11.46,-0.41
3D body: height 0.44, standoff -0.04, extent -11.94,-3.49 -11.46,-3.01
3D body: height 0.44, standoff -0.04, extent -11.94,-2.84 -11.46,-2.36
3D body: height 0.44, standoff -0.04, extent -11.94,-2.19 -11.46,-1.71
3D body: height 0.44, standoff -0.04, extent -11.94,-1.54 -11.46,-1.06
3D body: height 0.44, standoff -0.04, extent -11.94,6.26 -11.46,6.74
3D body: height 0.44, standoff -0.04, extent -11.94,5.61 -11.46,6.09
3D body: height 0.44, standoff -0.04, extent -11.94,4.96 -11.46,5.44
3D body: height 0.44, standoff -0.04, extent -11.94,4.31 -11.46,4.79
3D body: height 0.44, standoff -0.04, extent -11.94,1.71 -11.46,2.19
3D body: height 0.44, standoff -0.04, extent -11.94,2.36 -11.46,2.84
3D body: height 0.44, standoff -0.04, extent -11.94,3.01 -11.46,3.49
3D body: height 0.44, standoff -0.04, extent -11.94,3.66 -11.46,4.14
3D body: height 0.44, standoff -0.04, extent -11.94,8.86 -11.46,9.34
3D body: height 0.44, standoff -0.04, extent -11.94,8.21 -11.46,8.69
3D body: height 0.44, standoff -0.04, extent -11.94,7.56 -11.46,8.04
3D body: height 0.44, standoff -0.04, extent -11.94,6.91 -11.46,7.39
3D body: height 0.44, standoff -0.04, extent -11.94,9.51 -11.46,9.99
3D body: height 0.44, standoff -0.04, extent -11.94,10.16 -11.46,10.64
3D body: height 0.44, standoff -0.04, extent -11.94,10.81 -11.46,11.29
3D body: height 1.6, standoff 1, extent -12.5,-12.5 12.5,12.5
3D body: height 0.44, standoff -0.04, extent -11.94,11.46 -11.46,11.94
3D body: height 2.2, standoff 1.5, extent -8.01,-8.01 8.01,8.01

## FBGA60_DDR [mm]
height 0.8
pads (60):
  round 0.4 smd: A1(-3.2,4) A2(-2.4,4) A3(-1.6,4) A7(1.6,4) A8(2.4,4) A9(3.2,4) B1(-3.2,3.2) B2(-2.4,3.2) B3(-1.6,3.2) B7(1.6,3.2) B8(2.4,3.2) B9(3.2,3.2) C1(-3.2,2.4) C2(-2.4,2.4) C3(-1.6,2.4) C7(1.6,2.4) C8(2.4,2.4) C9(3.2,2.4) D1(-3.2,1.6) D2(-2.4,1.6) D3(-1.6,1.6) D7(1.6,1.6) D8(2.4,1.6) D9(3.2,1.6) E1(-3.2,0.8) E2(-2.4,0.8) E3(-1.6,0.8) E7(1.6,0.8) E8(2.4,0.8) E9(3.2,0.8) F2(-2.4,0) F3(-1.6,0) F7(1.6,0) F8(2.4,0) F9(3.2,0) G1(-3.2,-0.8) G2(-2.4,-0.8) G3(-1.6,-0.8) G7(1.6,-0.8) G8(2.4,-0.8) H2(-2.4,-1.6) H3(-1.6,-1.6) H7(1.6,-1.6) H8(2.4,-1.6) H9(3.2,-1.6) J1(-3.2,-2.4) J2(-2.4,-2.4) J3(-1.6,-2.4) J7(1.6,-2.4) J8(2.4,-2.4) K2(-2.4,-3.2) K3(-1.6,-3.2) K7(1.6,-3.2) K8(2.4,-3.2) K9(3.2,-3.2) L1(-3.2,-4) L2(-2.4,-4) L3(-1.6,-4) L7(1.6,-4) L8(2.4,-4)
Top Overlay:
  lines w0.15: -4.2,3.8 -2.9,5.1 ; -4.2,-5.2 4.2,-5.2 4.2,5.2 -4.2,5.2 -4.2,-5.2
Mechanical 1:
  circle w0.1: c-2.4,3.2 r0.8
  lines w0.1: -3.8,-4.8 3.8,-4.8 3.8,4.8 -3.8,4.8 -3.8,-4.8
3D body: height 0.8, standoff 0.2, extent -3.8,-4.8 3.8,4.8
3D body: height 0.5, standoff -0.1, extent -3.497,3.701 -2.9,4.299
3D body: height 0.5, standoff -0.1, extent -2.697,3.701 -2.1,4.299
3D body: height 0.5, standoff -0.1, extent -1.897,3.701 -1.3,4.299
3D body: height 0.5, standoff -0.1, extent 2.903,3.701 3.5,4.299
3D body: height 0.5, standoff -0.1, extent 2.103,3.701 2.7,4.299
3D body: height 0.5, standoff -0.1, extent 1.303,3.701 1.9,4.299
3D body: height 0.5, standoff -0.1, extent -1.897,-4.299 -1.3,-3.701
3D body: height 0.5, standoff -0.1, extent -2.697,-4.299 -2.1,-3.701
3D body: height 0.5, standoff -0.1, extent -3.497,-4.299 -2.9,-3.701
3D body: height 0.5, standoff -0.1, extent -3.497,2.901 -2.9,3.499
3D body: height 0.5, standoff -0.1, extent -3.497,2.101 -2.9,2.699
3D body: height 0.5, standoff -0.1, extent -3.497,1.301 -2.9,1.899
3D body: height 0.5, standoff -0.1, extent -3.497,0.501 -2.9,1.099
3D body: height 0.5, standoff -0.1, extent -3.497,-1.099 -2.9,-0.501
3D body: height 0.5, standoff -0.1, extent -3.497,-2.699 -2.9,-2.101
3D body: height 0.5, standoff -0.1, extent 2.903,-1.899 3.5,-1.301
3D body: height 0.5, standoff -0.1, extent 2.903,-0.299 3.5,0.299
3D body: height 0.5, standoff -0.1, extent 2.903,1.301 3.5,1.899
3D body: height 0.5, standoff -0.1, extent 2.903,2.101 3.5,2.699
3D body: height 0.5, standoff -0.1, extent 2.903,2.901 3.5,3.499
3D body: height 0.5, standoff -0.1, extent 2.903,-3.499 3.5,-2.901
3D body: height 0.5, standoff -0.1, extent 2.103,-4.299 2.7,-3.701
3D body: height 0.5, standoff -0.1, extent 1.303,-4.299 1.9,-3.701

## FBGA63_NAND [mm]
height 1
pads (63):
  round 0.4 smd: 60(-2.8,-4.4) 61(-3.6,-4.4) 62(-3.6,-3.6) 63(-2.8,-3.6) A1(-2,2.8) A2(-1.2,2.8) A3(-0.4,2.8) A4(0.4,2.8) A5(1.2,2.8) A6(2,2.8) B1(-2,2) B2(-1.2,2) B3(-0.4,2) B4(0.4,2) B5(1.2,2) B6(2,2) C1(-2,1.2) C2(-1.2,1.2) C3(-0.4,1.2) C4(0.4,1.2) C5(1.2,1.2) C6(2,1.2) D1(-2,0.4) D2(-1.2,0.4) D3(-0.4,0.4) D4(0.4,0.4) D5(1.2,0.4) D6(2,0.4) E1(-2,-0.4) E2(-1.2,-0.4) E3(-0.4,-0.4) E4(0.4,-0.4) E5(1.2,-0.4) E6(2,-0.4) F1(-2,-1.2) F2(-1.2,-1.2) F3(-0.4,-1.2) F4(0.4,-1.2) F5(1.2,-1.2) F6(2,-1.2) G1(-2,-2) G2(-1.2,-2) G3(-0.4,-2) G4(0.4,-2) G5(1.2,-2) G6(2,-2) H1(-2,-2.8) H2(-1.2,-2.8) H3(-0.4,-2.8) H4(0.4,-2.8) H5(1.2,-2.8) H6(2,-2.8) U1(-3.6,3.6) U2(-3.6,4.4) U3(-2.8,4.4) U4(2.8,4.4) U5(3.6,4.4) U6(3.6,3.6) U7(2.8,3.6) U8(3.6,-3.6) U9(3.6,-4.4) U10(2.8,-4.4) U11(2.8,-3.6)
Top Overlay:
  lines w0.15: -4.9,4.1 -3.3,5.7 ; -4.9,-5.7 4.9,-5.7 4.9,5.7 -4.9,5.7 -4.9,-5.7
Mechanical 1:
  circle w0.1: c-2.8,3.6 r0.8
  lines w0.1: -4.5,-5.3 4.5,-5.3 4.5,5.3 -4.5,5.3 -4.5,-5.3
3D body: height 0.5, standoff -0.1, extent -3.897,4.101 -3.3,4.699
3D body: height 0.5, standoff -0.1, extent -3.097,4.101 -2.5,4.699
3D body: height 0.5, standoff -0.1, extent -3.897,3.301 -3.3,3.899
3D body: height 0.5, standoff -0.1, extent 2.503,3.301 3.1,3.899
3D body: height 0.5, standoff -0.1, extent 3.303,3.301 3.9,3.899
3D body: height 0.5, standoff -0.1, extent 3.303,4.101 3.9,4.699
3D body: height 0.5, standoff -0.1, extent 2.503,4.101 3.1,4.699
3D body: height 0.5, standoff -0.1, extent -3.897,-3.899 -3.3,-3.301
3D body: height 0.5, standoff -0.1, extent -3.097,-3.899 -2.5,-3.301
3D body: height 0.5, standoff -0.1, extent -3.097,-4.699 -2.5,-4.101
3D body: height 0.5, standoff -0.1, extent -3.897,-4.699 -3.3,-4.101
3D body: height 0.5, standoff -0.1, extent 2.503,-3.899 3.1,-3.301
3D body: height 0.5, standoff -0.1, extent 3.303,-3.899 3.9,-3.301
3D body: height 0.5, standoff -0.1, extent 3.303,-4.699 3.9,-4.101
3D body: height 0.5, standoff -0.1, extent 2.503,-4.699 3.1,-4.101
3D body: height 1, standoff 0.25, extent -4.5,-5.3 4.5,5.3

## FBGA84_DDR [mm]
height 0.8
pads (84):
  round 0.4 smd: A1(-3.2,5.6) A2(-2.4,5.6) A3(-1.6,5.6) A7(1.6,5.6) A8(2.4,5.6) A9(3.2,5.6) B1(-3.2,4.8) B2(-2.4,4.8) B3(-1.6,4.8) B7(1.6,4.8) B8(2.4,4.8) B9(3.2,4.8) C1(-3.2,4) C2(-2.4,4) C3(-1.6,4) C7(1.6,4) C8(2.4,4) C9(3.2,4) D1(-3.2,3.2) D2(-2.4,3.2) D3(-1.6,3.2) D7(1.6,3.2) D8(2.4,3.2) D9(3.2,3.2) E1(-3.2,2.4) E2(-2.4,2.4) E3(-1.6,2.4) E7(1.6,2.4) E8(2.4,2.4) E9(3.2,2.4) F1(-3.2,1.6) F2(-2.4,1.6) F3(-1.6,1.6) F7(1.6,1.6) F8(2.4,1.6) F9(3.2,1.6) G1(-3.2,0.8) G2(-2.4,0.8) G3(-1.6,0.8) G7(1.6,0.8) G8(2.4,0.8) G9(3.2,0.8) H1(-3.2,0) H2(-2.4,0) H3(-1.6,0) H7(1.6,0) H8(2.4,0) H9(3.2,0) J1(-3.2,-0.8) J2(-2.4,-0.8) J3(-1.6,-0.8) J7(1.6,-0.8) J8(2.4,-0.8) J9(3.2,-0.8) K2(-2.4,-1.6) K3(-1.6,-1.6) K7(1.6,-1.6) K8(2.4,-1.6) K9(3.2,-1.6) L1(-3.2,-2.4) L2(-2.4,-2.4) L3(-1.6,-2.4) L7(1.6,-2.4) L8(2.4,-2.4) M2(-2.4,-3.2) M3(-1.6,-3.2) M7(1.6,-3.2) M8(2.4,-3.2) M9(3.2,-3.2) N1(-3.2,-4) N2(-2.4,-4) N3(-1.6,-4) N7(1.6,-4) N8(2.4,-4) P2(-2.4,-4.8) P3(-1.6,-4.8) P7(1.6,-4.8) P8(2.4,-4.8) P9(3.2,-4.8) R1(-3.2,-5.6) R2(-2.4,-5.6) R3(-1.6,-5.6) R7(1.6,-5.6) R8(2.4,-5.6)
Top Overlay:
  lines w0.15: -4.2,5.4 -2.9,6.7 ; -4.2,-6.7 4.2,-6.7 4.2,6.7 -4.2,6.7 -4.2,-6.7
Mechanical 1:
  circle w0.1: c-2.4,4.8 r0.8
  lines w0.1: -3.8,-6.3 3.8,-6.3 3.8,6.3 -3.8,6.3 -3.8,-6.3
3D body: height 0.8, standoff 0.2, extent -3.8,-6.3 3.8,6.3
3D body: height 0.5, standoff -0.1, extent -3.497,5.301 -2.9,5.899
3D body: height 0.5, standoff -0.1, extent -2.697,5.301 -2.1,5.899
3D body: height 0.5, standoff -0.1, extent -1.897,5.301 -1.3,5.899
3D body: height 0.5, standoff -0.1, extent 2.903,5.301 3.5,5.899
3D body: height 0.5, standoff -0.1, extent 2.103,5.301 2.7,5.899
3D body: height 0.5, standoff -0.1, extent 1.303,5.301 1.9,5.899
3D body: height 0.5, standoff -0.1, extent -1.897,-5.899 -1.3,-5.301
3D body: height 0.5, standoff -0.1, extent -2.697,-5.899 -2.1,-5.301
3D body: height 0.5, standoff -0.1, extent -3.497,-5.899 -2.9,-5.301
3D body: height 0.5, standoff -0.1, extent 2.103,-5.899 2.7,-5.301
3D body: height 0.5, standoff -0.1, extent 1.303,-5.899 1.9,-5.301
3D body: height 0.5, standoff -0.1, extent -3.497,-4.299 -2.9,-3.701
3D body: height 0.5, standoff -0.1, extent -3.497,-2.699 -2.9,-2.101
3D body: height 0.5, standoff -0.1, extent -3.497,-1.099 -2.9,-0.501
3D body: height 0.5, standoff -0.1, extent -3.497,-0.299 -2.9,0.299
3D body: height 0.5, standoff -0.1, extent -3.497,1.301 -2.9,1.899
3D body: height 0.5, standoff -0.1, extent -3.497,0.501 -2.9,1.099
3D body: height 0.5, standoff -0.1, extent -3.497,2.901 -2.9,3.499
3D body: height 0.5, standoff -0.1, extent -3.497,2.101 -2.9,2.699
3D body: height 0.5, standoff -0.1, extent -3.497,4.501 -2.9,5.099
3D body: height 0.5, standoff -0.1, extent -3.497,3.701 -2.9,4.299
3D body: height 0.5, standoff -0.1, extent 2.903,2.901 3.5,3.499
3D body: height 0.5, standoff -0.1, extent 2.903,3.701 3.5,4.299
3D body: height 0.5, standoff -0.1, extent 2.903,1.301 3.5,1.899
3D body: height 0.5, standoff -0.1, extent 2.903,2.101 3.5,2.699
3D body: height 0.5, standoff -0.1, extent 2.903,-0.299 3.5,0.299
3D body: height 0.5, standoff -0.1, extent 2.903,0.501 3.5,1.099
3D body: height 0.5, standoff -0.1, extent 2.903,-1.099 3.5,-0.501
3D body: height 0.5, standoff -0.1, extent 2.903,-1.899 3.5,-1.301
3D body: height 0.5, standoff -0.1, extent 2.903,-3.499 3.5,-2.901
3D body: height 0.5, standoff -0.1, extent 2.903,-5.099 3.5,-4.501
3D body: height 0.5, standoff -0.1, extent 2.903,4.501 3.5,5.099

## FBGA96_8x14 [mm]
height 1.1
pads (96):
  round 0.4 smd: A1(-3.2,6) A2(-2.4,6) A3(-1.6,6) A7(1.6,6) A8(2.4,6) A9(3.2,6) B1(-3.2,5.2) B2(-2.4,5.2) B3(-1.6,5.2) B7(1.6,5.2) B8(2.4,5.2) B9(3.2,5.2) C1(-3.2,4.4) C2(-2.4,4.4) C3(-1.6,4.4) C7(1.6,4.4) C8(2.4,4.4) C9(3.2,4.4) D1(-3.2,3.6) D2(-2.4,3.6) D3(-1.6,3.6) D7(1.6,3.6) D8(2.4,3.6) D9(3.2,3.6) E1(-3.2,2.8) E2(-2.4,2.8) E3(-1.6,2.8) E7(1.6,2.8) E8(2.4,2.8) E9(3.2,2.8) F1(-3.2,2) F2(-2.4,2) F3(-1.6,2) F7(1.6,2) F8(2.4,2) F9(3.2,2) G1(-3.2,1.2) G2(-2.4,1.2) G3(-1.6,1.2) G7(1.6,1.2) G8(2.4,1.2) G9(3.2,1.2) H1(-3.2,0.4) H2(-2.4,0.4) H3(-1.6,0.4) H7(1.6,0.4) H8(2.4,0.4) H9(3.2,0.4) J1(-3.2,-0.4) J2(-2.4,-0.4) J3(-1.6,-0.4) J7(1.6,-0.4) J8(2.4,-0.4) J9(3.2,-0.4) K1(-3.2,-1.2) K2(-2.4,-1.2) K3(-1.6,-1.2) K7(1.6,-1.2) K8(2.4,-1.2) K9(3.2,-1.2) L1(-3.2,-2) L2(-2.4,-2) L3(-1.6,-2) L7(1.6,-2) L8(2.4,-2) L9(3.2,-2) M1(-3.2,-2.8) M2(-2.4,-2.8) M3(-1.6,-2.8) M7(1.6,-2.8) M8(2.4,-2.8) M9(3.2,-2.8) N1(-3.2,-3.6) N2(-2.4,-3.6) N3(-1.6,-3.6) N7(1.6,-3.6) N8(2.4,-3.6) N9(3.2,-3.6) P1(-3.2,-4.4) P2(-2.4,-4.4) P3(-1.6,-4.4) P7(1.6,-4.4) P8(2.4,-4.4) P9(3.2,-4.4) R1(-3.2,-5.2) R2(-2.4,-5.2) R3(-1.6,-5.2) R7(1.6,-5.2) R8(2.4,-5.2) R9(3.2,-5.2) T1(-3.2,-6) T2(-2.4,-6) T3(-1.6,-6) T7(1.6,-6) T8(2.4,-6) T9(3.2,-6)
Top Overlay:
  lines w0.15: -4.5,6 -3,7.5 ; -4.5,-7.5 -4.5,7.5 4.5,7.5 4.5,-7.5 -4.5,-7.5
Mechanical 1:
  circle w0.1: c-2.5,5.5 r0.8
  lines w0.1: -4,-7 -4,7 4,7 4,-7 -4,-7
3D body: height 0.5, standoff -0.1, extent 2.903,-6.299 3.5,-5.701
3D body: height 0.5, standoff -0.1, extent 2.903,-5.499 3.5,-4.901
3D body: height 0.5, standoff -0.1, extent 2.903,-3.899 3.5,-3.301
3D body: height 0.5, standoff -0.1, extent 2.903,-2.299 3.5,-1.701
3D body: height 0.5, standoff -0.1, extent -3.497,-1.499 -2.9,-0.901
3D body: height 0.5, standoff -0.1, extent -3.497,-3.099 -2.9,-2.501
3D body: height 0.5, standoff -0.1, extent -3.497,-4.699 -2.9,-4.101
3D body: height 0.5, standoff -0.1, extent -3.497,-5.499 -2.9,-4.901
3D body: height 0.5, standoff -0.1, extent 2.903,4.901 3.5,5.499
3D body: height 0.5, standoff -0.1, extent 2.903,-4.699 3.5,-4.101
3D body: height 0.5, standoff -0.1, extent 2.903,-3.099 3.5,-2.501
3D body: height 0.5, standoff -0.1, extent 2.903,-1.499 3.5,-0.901
3D body: height 0.5, standoff -0.1, extent 2.903,-0.699 3.5,-0.101
3D body: height 0.5, standoff -0.1, extent 2.903,0.901 3.5,1.499
3D body: height 0.5, standoff -0.1, extent 2.903,0.101 3.5,0.699
3D body: height 0.5, standoff -0.1, extent 2.903,2.501 3.5,3.099
3D body: height 0.5, standoff -0.1, extent 2.903,1.701 3.5,2.299
3D body: height 0.5, standoff -0.1, extent 2.903,4.101 3.5,4.699
3D body: height 0.5, standoff -0.1, extent 2.903,3.301 3.5,3.899
3D body: height 0.5, standoff -0.1, extent -3.497,4.101 -2.9,4.699
3D body: height 0.5, standoff -0.1, extent -3.497,4.901 -2.9,5.499
3D body: height 0.5, standoff -0.1, extent -3.497,2.501 -2.9,3.099
3D body: height 0.5, standoff -0.1, extent -3.497,3.301 -2.9,3.899
3D body: height 0.5, standoff -0.1, extent -3.497,0.901 -2.9,1.499
3D body: height 0.5, standoff -0.1, extent -3.497,1.701 -2.9,2.299
3D body: height 0.5, standoff -0.1, extent -3.497,0.101 -2.9,0.699
3D body: height 0.5, standoff -0.1, extent -3.497,-0.699 -2.9,-0.101
3D body: height 0.5, standoff -0.1, extent -3.497,-2.299 -2.9,-1.701
3D body: height 0.5, standoff -0.1, extent -3.497,-3.899 -2.9,-3.301
3D body: height 0.5, standoff -0.1, extent 1.303,-6.299 1.9,-5.701
3D body: height 0.5, standoff -0.1, extent 2.103,-6.299 2.7,-5.701
3D body: height 0.5, standoff -0.1, extent -3.497,-6.299 -2.9,-5.701
3D body: height 0.5, standoff -0.1, extent -2.697,-6.299 -2.1,-5.701
3D body: height 0.5, standoff -0.1, extent -1.897,-6.299 -1.3,-5.701
3D body: height 0.5, standoff -0.1, extent 1.303,5.701 1.9,6.299
3D body: height 0.5, standoff -0.1, extent 2.103,5.701 2.7,6.299
3D body: height 0.5, standoff -0.1, extent 2.903,5.701 3.5,6.299
3D body: height 0.5, standoff -0.1, extent -1.897,5.701 -1.3,6.299
3D body: height 0.5, standoff -0.1, extent -2.697,5.701 -2.1,6.299
3D body: height 0.5, standoff -0.1, extent -3.497,5.701 -2.9,6.299
3D body: height 1.1, standoff 0.25, extent -4,-7 4,7

## FBGA96_9x14 [mm]
height 1.1
pads (96):
  round 0.4 smd: A1(-3.2,6) A2(-2.4,6) A3(-1.6,6) A7(1.6,6) A8(2.4,6) A9(3.2,6) B1(-3.2,5.2) B2(-2.4,5.2) B3(-1.6,5.2) B7(1.6,5.2) B8(2.4,5.2) B9(3.2,5.2) C1(-3.2,4.4) C2(-2.4,4.4) C3(-1.6,4.4) C7(1.6,4.4) C8(2.4,4.4) C9(3.2,4.4) D1(-3.2,3.6) D2(-2.4,3.6) D3(-1.6,3.6) D7(1.6,3.6) D8(2.4,3.6) D9(3.2,3.6) E1(-3.2,2.8) E2(-2.4,2.8) E3(-1.6,2.8) E7(1.6,2.8) E8(2.4,2.8) E9(3.2,2.8) F1(-3.2,2) F2(-2.4,2) F3(-1.6,2) F7(1.6,2) F8(2.4,2) F9(3.2,2) G1(-3.2,1.2) G2(-2.4,1.2) G3(-1.6,1.2) G7(1.6,1.2) G8(2.4,1.2) G9(3.2,1.2) H1(-3.2,0.4) H2(-2.4,0.4) H3(-1.6,0.4) H7(1.6,0.4) H8(2.4,0.4) H9(3.2,0.4) J1(-3.2,-0.4) J2(-2.4,-0.4) J3(-1.6,-0.4) J7(1.6,-0.4) J8(2.4,-0.4) J9(3.2,-0.4) K1(-3.2,-1.2) K2(-2.4,-1.2) K3(-1.6,-1.2) K7(1.6,-1.2) K8(2.4,-1.2) K9(3.2,-1.2) L1(-3.2,-2) L2(-2.4,-2) L3(-1.6,-2) L7(1.6,-2) L8(2.4,-2) L9(3.2,-2) M1(-3.2,-2.8) M2(-2.4,-2.8) M3(-1.6,-2.8) M7(1.6,-2.8) M8(2.4,-2.8) M9(3.2,-2.8) N1(-3.2,-3.6) N2(-2.4,-3.6) N3(-1.6,-3.6) N7(1.6,-3.6) N8(2.4,-3.6) N9(3.2,-3.6) P1(-3.2,-4.4) P2(-2.4,-4.4) P3(-1.6,-4.4) P7(1.6,-4.4) P8(2.4,-4.4) P9(3.2,-4.4) R1(-3.2,-5.2) R2(-2.4,-5.2) R3(-1.6,-5.2) R7(1.6,-5.2) R8(2.4,-5.2) R9(3.2,-5.2) T1(-3.2,-6) T2(-2.4,-6) T3(-1.6,-6) T7(1.6,-6) T8(2.4,-6) T9(3.2,-6)
Top Overlay:
  lines w0.15: -5,6 -3.5,7.5 ; -5,-7.5 -5,7.5 5,7.5 5,-7.5 -5,-7.5
Mechanical 1:
  circle w0.1: c-3,5.5 r0.8
  lines w0.1: -4.5,-7 -4.5,7 4.5,7 4.5,-7 -4.5,-7
3D body: height 0.5, standoff -0.1, extent 2.903,-6.299 3.5,-5.701
3D body: height 0.5, standoff -0.1, extent 2.903,-5.499 3.5,-4.901
3D body: height 0.5, standoff -0.1, extent 2.903,-3.899 3.5,-3.301
3D body: height 0.5, standoff -0.1, extent 2.903,-2.299 3.5,-1.701
3D body: height 0.5, standoff -0.1, extent -3.497,-1.499 -2.9,-0.901
3D body: height 0.5, standoff -0.1, extent -3.497,-3.099 -2.9,-2.501
3D body: height 0.5, standoff -0.1, extent -3.497,-4.699 -2.9,-4.101
3D body: height 0.5, standoff -0.1, extent -3.497,-5.499 -2.9,-4.901
3D body: height 0.5, standoff -0.1, extent 2.903,4.901 3.5,5.499
3D body: height 0.5, standoff -0.1, extent 2.903,-4.699 3.5,-4.101
3D body: height 0.5, standoff -0.1, extent 2.903,-3.099 3.5,-2.501
3D body: height 0.5, standoff -0.1, extent 2.903,-1.499 3.5,-0.901
3D body: height 0.5, standoff -0.1, extent 2.903,-0.699 3.5,-0.101
3D body: height 0.5, standoff -0.1, extent 2.903,0.901 3.5,1.499
3D body: height 0.5, standoff -0.1, extent 2.903,0.101 3.5,0.699
3D body: height 0.5, standoff -0.1, extent 2.903,2.501 3.5,3.099
3D body: height 0.5, standoff -0.1, extent 2.903,1.701 3.5,2.299
3D body: height 0.5, standoff -0.1, extent 2.903,4.101 3.5,4.699
3D body: height 0.5, standoff -0.1, extent 2.903,3.301 3.5,3.899
3D body: height 0.5, standoff -0.1, extent -3.497,4.101 -2.9,4.699
3D body: height 0.5, standoff -0.1, extent -3.497,4.901 -2.9,5.499
3D body: height 0.5, standoff -0.1, extent -3.497,2.501 -2.9,3.099
3D body: height 0.5, standoff -0.1, extent -3.497,3.301 -2.9,3.899
3D body: height 0.5, standoff -0.1, extent -3.497,0.901 -2.9,1.499
3D body: height 0.5, standoff -0.1, extent -3.497,1.701 -2.9,2.299
3D body: height 0.5, standoff -0.1, extent -3.497,0.101 -2.9,0.699
3D body: height 0.5, standoff -0.1, extent -3.497,-0.699 -2.9,-0.101
3D body: height 0.5, standoff -0.1, extent -3.497,-2.299 -2.9,-1.701
3D body: height 0.5, standoff -0.1, extent -3.497,-3.899 -2.9,-3.301
3D body: height 0.5, standoff -0.1, extent 1.303,-6.299 1.9,-5.701
3D body: height 0.5, standoff -0.1, extent 2.103,-6.299 2.7,-5.701
3D body: height 0.5, standoff -0.1, extent -3.497,-6.299 -2.9,-5.701
3D body: height 0.5, standoff -0.1, extent -2.697,-6.299 -2.1,-5.701
3D body: height 0.5, standoff -0.1, extent -1.897,-6.299 -1.3,-5.701
3D body: height 0.5, standoff -0.1, extent 1.303,5.701 1.9,6.299
3D body: height 0.5, standoff -0.1, extent 2.103,5.701 2.7,6.299
3D body: height 0.5, standoff -0.1, extent 2.903,5.701 3.5,6.299
3D body: height 0.5, standoff -0.1, extent -1.897,5.701 -1.3,6.299
3D body: height 0.5, standoff -0.1, extent -2.697,5.701 -2.1,6.299
3D body: height 0.5, standoff -0.1, extent -3.497,5.701 -2.9,6.299
3D body: height 1.1, standoff 0.25, extent -4.5,-7 4.5,7